# Altium footprint library NC7SZ332P6X.PcbLib: 2 footprints
Each footprint in its own frame and in the unit in brackets; x right, y up, seen from the top. Pads: shape width x height; smd on the part's side, far side on the other; paste and mask are expansions set on the pad; w line width, h text height; cw(c..) or ccw(c..) is an arc to the next point about the centre after c.
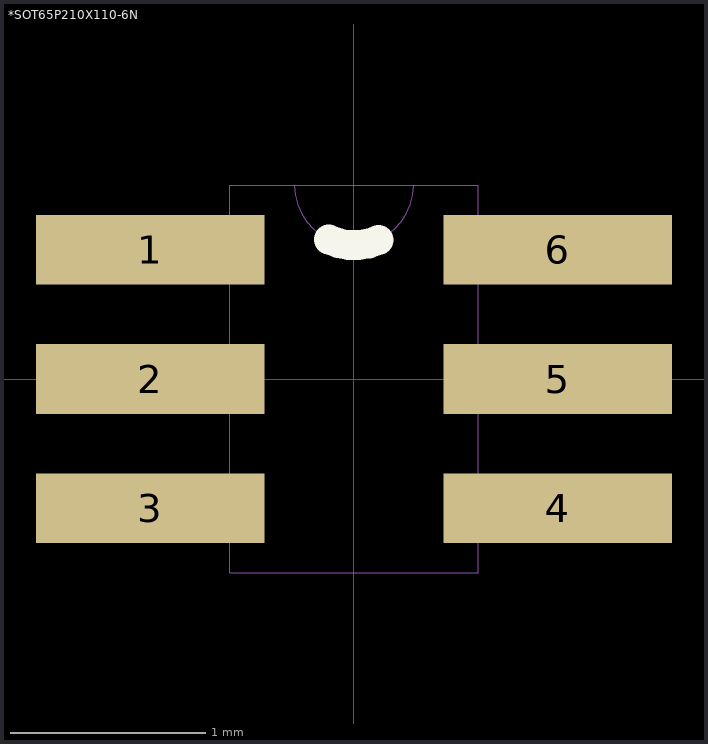
[diagram p0: the footprints below, top view; thin cyan lines are the x and y axes]

## *SOT65P210X110-6N [mil]
pads (6):
  rect 46x14 smd: 1(-41,26) 2(-41,0) 3(-41,-26) 4(41,-26) 5(41,0) 6(41,26)
Top Overlay:
  lines w6: -5.1,28.04 ccw(c0,38.97) 4.9,27.96
Mechanical 4:
  lines w0: -47,-31 -25,-31 ; -47,-31 -47,-20 ; -47,-31 -25,-31 ; -47,-31 -47,-20 ; -47,-20 -25,-20 ; -47,-20 -25,-20 ; -47,-6 -25,-6 ; -47,-6 -47,6 ; -47,-6 -25,-6 ; -47,-6 -47,6 ; -47,6 -25,6 ; -47,6 -25,6 ; -47,20 -25,20 ; -47,20 -47,31 ; -47,20 -25,20 ; -47,20 -47,31 ; -47,31 -25,31 ; -47,31 -25,31 ; -25,-39 -25,-31 ; -25,-39 25,-39 ; -25,-39 -25,-31 ; -25,-39 25,-39 ; -25,-31 -25,-20 ; -25,-31 -25,-20 ; -25,-20 -25,-6 ; -25,-20 -25,-6 ; -25,-6 -25,6 ; -25,-6 -25,6 ; -25,6 -25,20 ; -25,6 -25,20 ; -25,20 -25,31 ; -25,20 -25,31 ; -25,31 -25,39 ; -25,31 -25,39 ; -25,39 -12,39 ; -25,39 -12,39 ; -12,39 ccw(c0,39) 12,39 ; -12,39 ccw(c0,39) 12,39 ; -12,39 12,39 ; -12,39 12,39 ; 12,39 25,39 ; 12,39 25,39 ; 25,-39 25,-31 ; 25,-39 25,-31 ; 25,-31 47,-31 ; 25,-31 25,-20 ; 25,-31 47,-31 ; 25,-31 25,-20 ; 25,-20 47,-20 ; 25,-20 25,-6 ; 25,-20 47,-20 ; 25,-20 25,-6 ; 25,-6 47,-6 ; 25,-6 25,6 ; 25,-6 47,-6 ; 25,-6 25,6 ; 25,6 47,6 ; 25,6 25,20 ; 25,6 47,6 ; 25,6 25,20 ; 25,20 47,20 ; 25,20 25,31 ; 25,20 47,20 ; 25,20 25,31 ; 25,31 47,31 ; 25,31 25,39 ; 25,31 47,31 ; 25,31 25,39 ; 47,-31 47,-20 ; 47,-31 47,-20 ; 47,-6 47,6 ; 47,-6 47,6 ; 47,20 47,31 ; 47,20 47,31

## PCBComponent_1 [mil]